# Altium footprint library ELKO_SMD_10x10.5 - duplicate.PcbLib: 1 footprints
Each footprint in its own frame and in the unit in brackets; x right, y up, seen from the top. Pads: shape width x height; smd on the part's side, far side on the other; paste and mask are expansions set on the pad; w line width, h text height; cw(c..) or ccw(c..) is an arc to the next point about the centre after c.
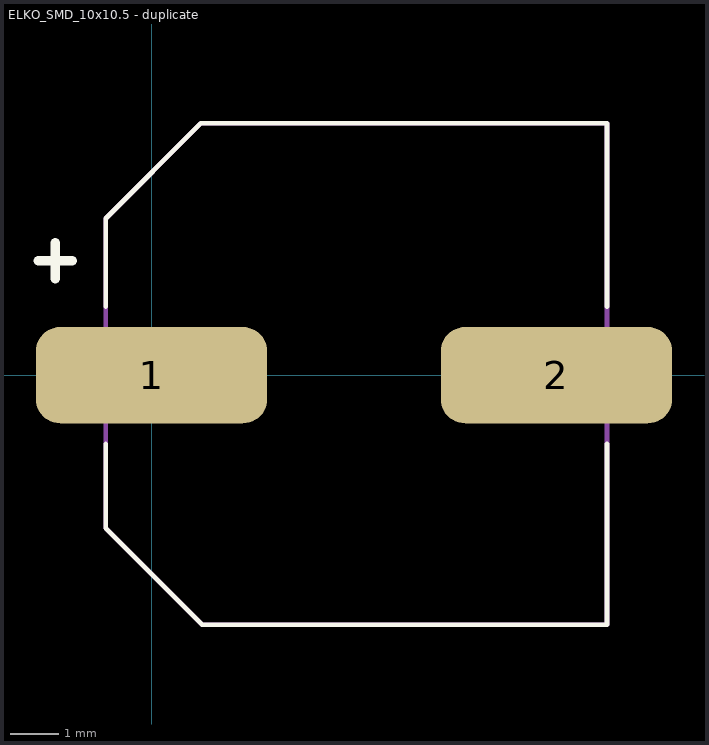
[diagram p0: the footprint, top view; thin cyan lines are the x and y axes]

## ELKO_SMD_10x10.5 - duplicate [mm]
height 10.5
pads (2):
  rrect50% 4.8x2 smd: 1(0,0) 2(8.4,0)
Top Overlay:
  lines w0.1: -0.95,-1.425 -0.95,-3.175 1.05,-5.175 9.45,-5.175 9.45,-1.425 ; -0.95,1.425 -0.95,3.25 1.025,5.225 9.45,5.225 9.45,1.425
  lines w0.2: -2.35,2.375 -1.65,2.375 ; -2,2 -2,2.75
Mechanical 15:
  lines w0.1: -0.95,-3.175 1.05,-5.175 9.45,-5.175 9.45,5.225 1.025,5.225 -0.95,3.25 -0.95,-3.175
3D body: height 1, standoff 0, extent -0.95,-5.175 9.45,5.225
3D body: height 10.5, standoff 0.5, extent -0.736,-4.94 9.225,5.04
3D body: height 0.3, standoff 0, extent -1.4,-0.5 -0.95,0.5
3D body: height 0.3, standoff 0, extent 9.45,-0.525 9.9,0.475